# Altium footprint library RES-ARRAY-SMD_0603-8P-L3.2-W1.6-BL.PcbLib: 1 footprints
Each footprint in its own frame and in the unit in brackets; x right, y up, seen from the top. Pads: shape width x height; smd on the part's side, far side on the other; paste and mask are expansions set on the pad; w line width, h text height; cw(c..) or ccw(c..) is an arc to the next point about the centre after c.
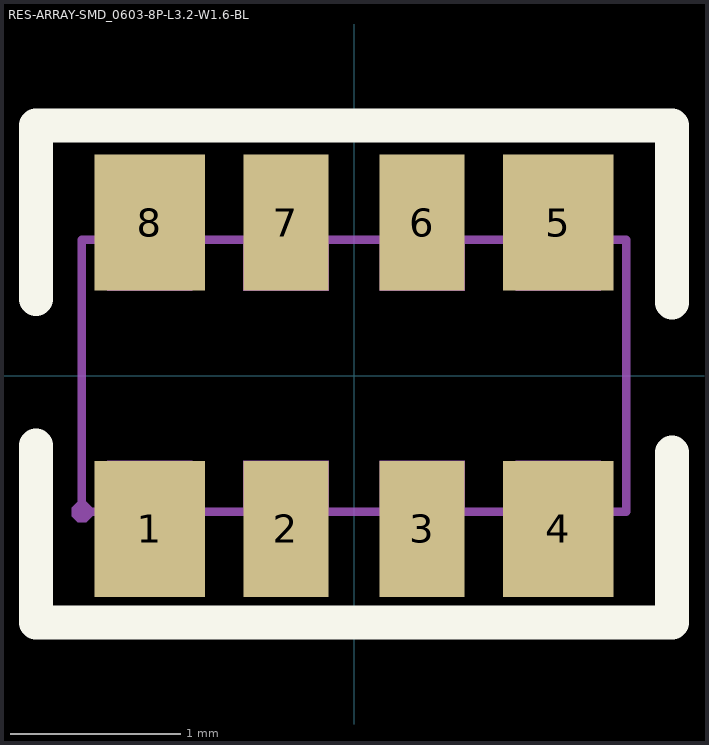
[diagram p0: the footprint, top view; thin cyan lines are the x and y axes]

## RES-ARRAY-SMD_0603-8P-L3.2-W1.6-BL [mm]
pads (8):
  rect 0.65x0.8 smd paste+0 mask+0.051: 1(-1.2,-0.9) 4(1.2,-0.9) 5(1.2,0.9) 8(-1.2,0.9)
  rect 0.5x0.8 smd paste+0 mask+0.051: 2(-0.4,-0.9) 3(0.4,-0.9) 6(0.4,0.9) 7(-0.4,0.9)
Top Overlay:
  lines w0.2: -1.87,-0.41 -1.87,-1.45 1.87,-1.45 1.87,-0.45 ; -1.87,0.45 -1.87,1.47 1.87,1.47 1.87,0.43
Mechanical 15:
  region: 0.95,0.5 0.95,0.8 1.45,0.8 1.45,0.5
  region: -0.65,0.5 -0.65,0.8 -0.15,0.8 -0.15,0.5
  region: 0.95,-0.8 0.95,-0.5 1.45,-0.5 1.45,-0.8
  region: 0.15,0.5 0.15,0.8 0.65,0.8 0.65,0.5
  region: 0.15,-0.8 0.15,-0.5 0.65,-0.5 0.65,-0.8
  region: -0.65,-0.8 -0.65,-0.5 -0.15,-0.5 -0.15,-0.8
  region: -1.45,0.5 -1.45,0.8 -0.95,0.8 -0.95,0.5
  region: -1.45,-0.8 -1.45,-0.5 -0.95,-0.5 -0.95,-0.8
  region: -1.54,-0.8 -1.54,-0.775 -1.575,-0.74 -1.625,-0.74 -1.66,-0.775 -1.66,-0.8 -1.66,-0.825 -1.625,-0.86 -1.575,-0.86 -1.54,-0.825 -1.54,-0.8
  lines w0.051: -1.6,-0.8 1.6,-0.8 1.6,0.8 -1.6,0.8 -1.6,-0.8